# Altium footprint library Footprint.PcbLib: 97 footprints (part 6 of 7)
Each footprint in its own frame and in the unit in brackets; x right, y up, seen from the top. Pads: shape width x height; smd on the part's side, far side on the other; paste and mask are expansions set on the pad; w line width, h text height; cw(c..) or ccw(c..) is an arc to the next point about the centre after c.
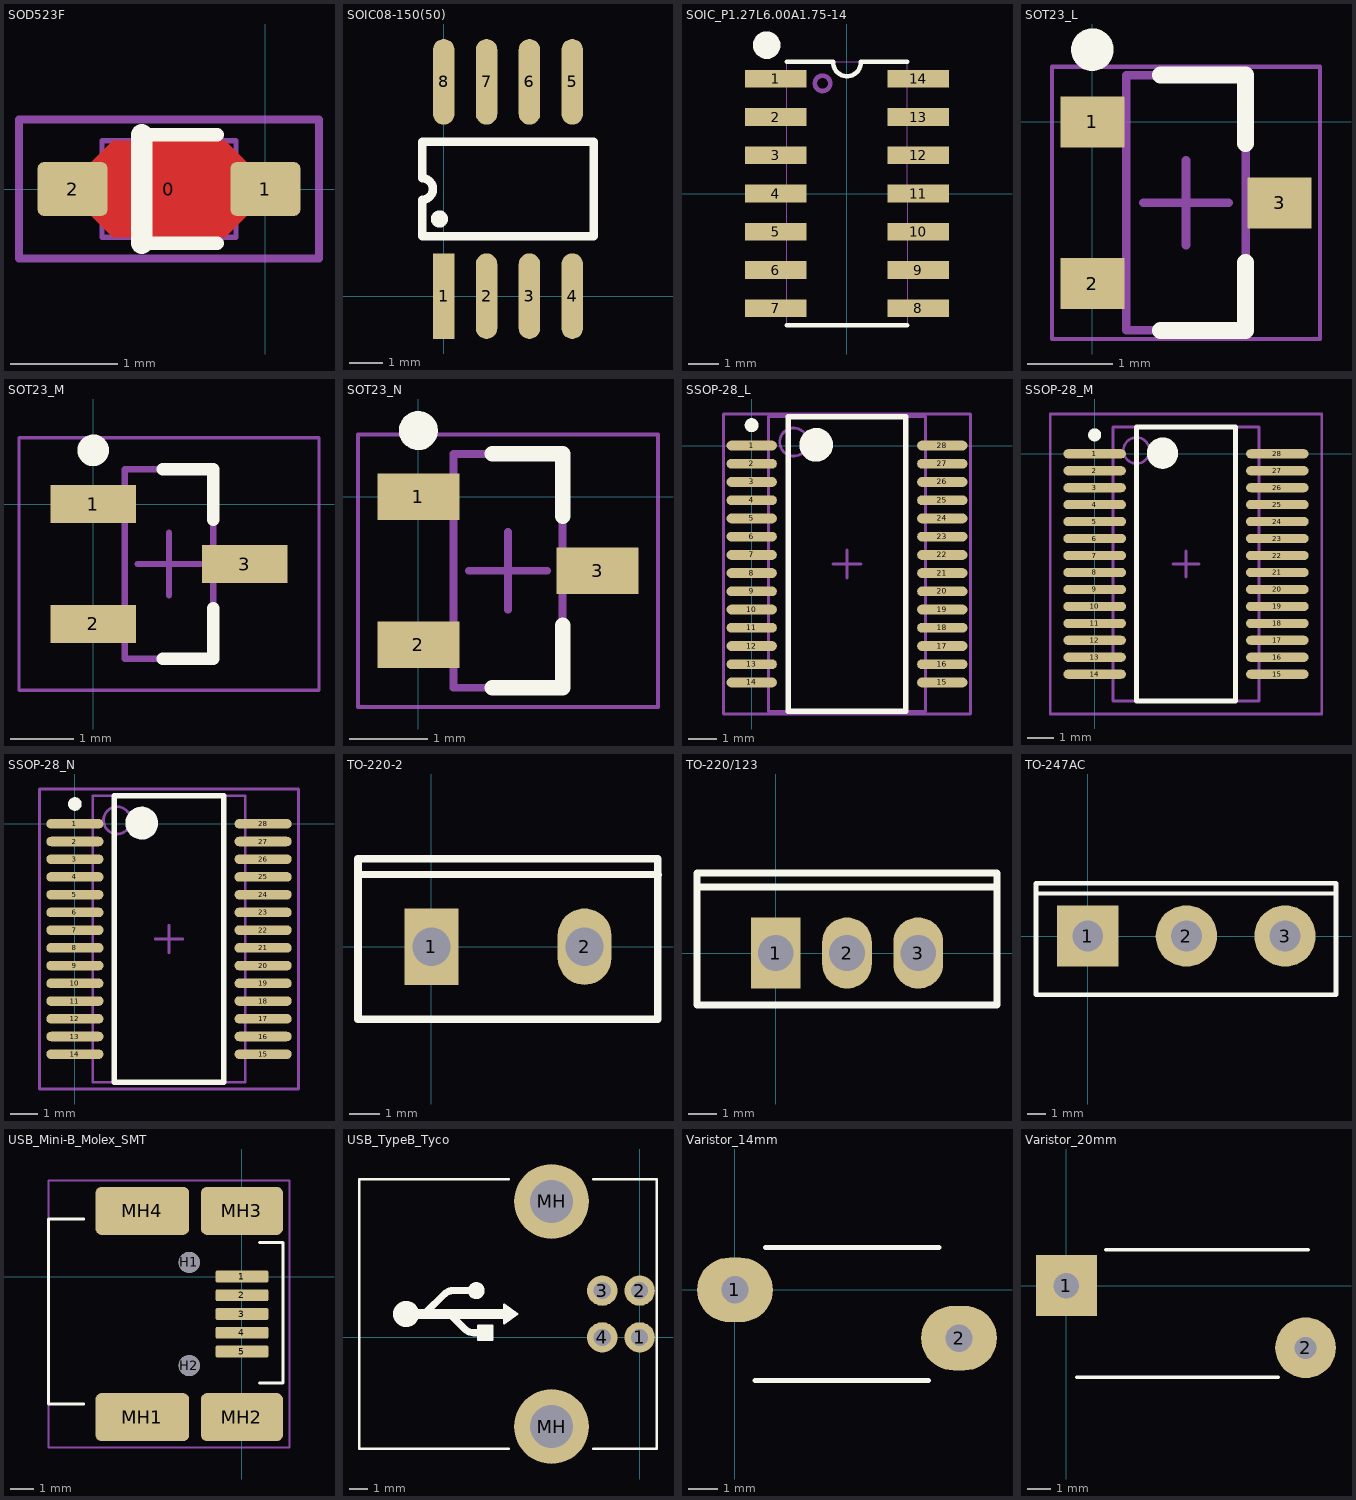
[diagram p5: the footprints below, top view; thin cyan lines are the x and y axes]

## SOD523F [mm] "SOD-523F; 2 Leads; Body 1.3 x 0.9 mm, (LxW)"
height 0.7
pads (3):
  round 0.508 on Mech15: 0(-0.9,0)
  rrect20% 0.65x0.5 smd: 1(0,0) 2(-1.8,0)
Top Layer:
  pour cut-out: -1.625,-0.25 -1.625,0.25 -1.425,0.45 -0.375,0.45 -0.175,0.25 -0.175,-0.25 -0.375,-0.45 -1.425,-0.45
Top Overlay:
  lines w0.127: -1.154,-0.508 -0.45,-0.508 ; -1.154,0.508 -0.45,0.508
  lines w0.2: -1.154,-0.508 -1.154,0.508
  text "." at -1.8,-0.625 h0.05
Mechanical 13:
  lines w0.05: -1.525,-0.175 -1.525,0.175 ; -1.525,-0.175 -1.525,-0.45 -0.275,-0.45 -0.275,-0.175 ; -1.525,-0.175 -1.75,-0.175 -1.75,0.175 -1.525,0.175 ; -1.525,0.175 -1.525,0.45 -0.275,0.45 -0.275,0.175 ; -0.275,-0.175 -0.275,0.175 ; -0.275,-0.175 -0.05,-0.175 -0.05,0.175 -0.275,0.175
  lines w0.127: -1.325,-0.275 -1.325,0.275
Mechanical 15:
  lines w0.076: -2.3,-0.65 0.5,-0.65 0.5,0.65 -2.3,0.65 -2.3,-0.65
3D body: height 0.7, standoff 0, extent -1.75,-0.45 -0.05,0.45

## SOIC08-150(50) [mm] "SOIC 8 Leads; Row Spacing 3.81 mm; Pitch 1.27 mm; 3D André L´Hérault"
height 1.778
pads (8):
  rect 0.635x2.54 smd: 1(0,0)
  oval 0.635x2.54 smd: 2(1.27,0) 3(2.54,0) 4(3.81,0) 5(3.81,6.35) 6(2.54,6.35) 7(1.27,6.35) 8(0,6.35)
Top Overlay:
  circle w0.254: c-0.127,2.286 r0.127
  lines w0.254: -0.635,1.778 4.445,1.778 4.445,4.572 -0.635,4.572 -0.635,3.492 cw(c-0.635,3.175) -0.635,2.857 -0.635,1.778
3D body: height 1.88, standoff 0, extent -0.508,0.147 4.442,6.203

## SOIC_P1.27L6.00A1.75-14 [mm]
height 1.75
pads (14):
  rect 2.04x0.592 smd: 1(-2.36,3.81) 2(-2.36,2.54) 3(-2.36,1.27) 4(-2.36,0) 5(-2.36,-1.27) 6(-2.36,-2.54) 7(-2.36,-3.81) 8(2.36,-3.81) 9(2.36,-2.54) 10(2.36,-1.27) 11(2.36,0) 12(2.36,1.27) 13(2.36,2.54) 14(2.36,3.81)
Top Overlay:
  circle w0.508: c-2.667,4.927 r0.203
  lines w0.152: -2,-4.375 2,-4.375 ; -2,4.369 -0.458,4.369 ccw(c0,4.352) 0.457,4.369 2,4.369
Mechanical 16:
  circle w0.152: c-0.813,3.659 r0.255
  lines w0.025: -3,-4.051 -3,-3.569 ; -3,-2.781 -3,-2.299 ; -3,-1.511 -3,-1.029 ; -3,-0.241 -3,0.241 ; -3,1.029 -3,1.511 ; -3,2.299 -3,2.781 ; -3,3.569 -3,4.051 ; -2.993,-4.051 -1.73,-4.051 -1.73,-3.569 -3,-3.569 ; -2.993,-2.781 -1.73,-2.781 -1.73,-2.299 -3,-2.299 ; -2.993,-1.511 -1.73,-1.511 -1.73,-1.029 -3,-1.029 ; -2.993,-0.241 -1.73,-0.241 -1.73,0.241 -3,0.241 ; -2.993,1.029 -1.73,1.029 -1.73,1.511 -3,1.511 ; -2.993,2.299 -1.73,2.299 -1.73,2.781 -3,2.781 ; -2.993,3.569 -1.73,3.569 -1.73,4.051 -3,4.051 ; -1.993,-3.569 -3,-3.569 ; -1.993,-2.299 -3,-2.299 ; -1.993,-1.029 -3,-1.029 ; -1.993,0.241 -3,0.241 ; -1.993,1.511 -3,1.511 ; -1.993,2.781 -3,2.781 ; -1.993,4.051 -3,4.051 ; 1.993,-3.569 3,-3.569 ; 1.993,-1.511 1.993,-1.029 3,-1.029 ; 1.993,1.511 3,1.511 ; 1.993,2.299 1.993,2.781 3,2.781 ; 1.993,3.569 1.993,4.051 3,4.051 ; 2.993,-4.051 1.73,-4.051 1.73,-3.569 3,-3.569 ; 2.993,-2.781 1.73,-2.781 1.73,-2.299 3,-2.299 3,-2.781 ; 2.993,-1.511 1.73,-1.511 1.73,-1.029 3,-1.029 ; 2.993,-0.241 1.73,-0.241 1.73,0.241 3,0.241 3,-0.241 ; 2.993,1.029 1.73,1.029 1.73,1.511 3,1.511 ; 2.993,2.299 1.73,2.299 1.73,2.781 3,2.781 ; 2.993,3.569 1.73,3.569 1.73,4.051 3,4.051 ; 3,-4.051 3,-3.569 ; 3,-1.511 3,-1.029 ; 3,1.029 3,1.511 ; 3,2.299 3,2.781 ; 3,3.569 3,4.051 ; -2,-4.375 2,-4.375 2,0 2,4.375 -2,4.375 -2,0 -2,-4.375
3D body: height 1.75, standoff 0, extent -2,-4.375 2,4.375

## SOT23_L [mm] "SOT23, 3-Leads, Body 2.9x1.3 mm, Pitch 0.95 mm, IPC High Density"
height 1.1
pads (3):
  rect 0.75x0.6 smd: 1(0,0) 2(0,-1.9) 3(2.2,-0.95)
Top Overlay:
  circle w0.25: c0,0.85 r0.125
  lines w0.2: 0.8,-2.45 1.8,-2.45 1.8,-1.65 ; 0.8,0.55 1.8,0.55 1.8,-0.25
Mechanical 13:
  lines w0.1: 0.4,-2.45 1.8,-2.45 1.8,0.55 0.4,0.55 0.4,-2.45
Mechanical 15:
  lines w0.05: -0.475,-2.55 2.675,-2.55 2.675,0.65 -0.475,0.65 -0.475,-2.55
  lines w0.1: 0.6,-0.95 1.6,-0.95 ; 1.1,-1.45 1.1,-0.45
3D body: height 1.1, standoff 0.1, extent 0.4,-2.45 1.8,0.55

## SOT23_M [mm] "SOT23, 3-Leads, Body 2.9x1.3 mm, Pitch 0.95 mm, IPC Low Density"
height 1.1
pads (3):
  rect 1.35x0.6 smd: 1(0,0) 2(0,-1.9) 3(2.4,-0.95)
Top Overlay:
  circle w0.25: c0,0.85 r0.125
  lines w0.2: 1.1,-2.45 1.9,-2.45 1.9,-1.65 ; 1.1,0.55 1.9,0.55 1.9,-0.25
Mechanical 13:
  lines w0.1: 0.5,-2.45 0.5,0.55 1.9,0.55 1.9,-2.45 0.5,-2.45
Mechanical 15:
  lines w0.05: -1.175,-2.95 -1.175,1.05 3.575,1.05 3.575,-2.95 -1.175,-2.95
  lines w0.1: 0.7,-0.95 1.7,-0.95 ; 1.2,-1.45 1.2,-0.45
3D body: height 1.1, standoff 0.1, extent 0.5,-2.45 1.9,0.55

## SOT23_N [mm] "SOT23, 3-Leads, Body 2.9x1.3 mm, Pitch 0.95 mm, IPC Medium Density"
height 1.1
pads (3):
  rect 1.05x0.6 smd: 1(0,0) 2(0,-1.9) 3(2.3,-0.95)
Top Overlay:
  circle w0.25: c0,0.85 r0.125
  lines w0.2: 0.95,-2.45 1.85,-2.45 1.85,-1.65 ; 0.95,0.55 1.85,0.55 1.85,-0.25
Mechanical 13:
  lines w0.1: 0.45,-2.45 1.85,-2.45 1.85,0.55 0.45,0.55 0.45,-2.45
Mechanical 15:
  lines w0.05: -0.775,-2.7 3.075,-2.7 3.075,0.8 -0.775,0.8 -0.775,-2.7
  lines w0.1: 0.65,-0.95 1.65,-0.95 ; 1.15,-1.45 1.15,-0.45
3D body: height 1.1, standoff 0.1, extent 0.45,-2.45 1.85,0.55

## SSOP-28_L [mm] "SOP, 28-Leads, Body 10.2x5.3mm, Pitch 0.65mm, IPC High Density"
height 2
pads (28):
  oval 1.8x0.35 smd: 1(0,0) 2(0,-0.65) 3(0,-1.3) 4(0,-1.95) 5(0,-2.6) 6(0,-3.25) 7(0,-3.9) 8(0,-4.55) 9(0,-5.2) 10(0,-5.85) 11(0,-6.5) 12(0,-7.15) 13(0,-7.8) 14(0,-8.45) 15(6.8,-8.45) 16(6.8,-7.8) 17(6.8,-7.15) 18(6.8,-6.5) 19(6.8,-5.85) 20(6.8,-5.2) 21(6.8,-4.55) 22(6.8,-3.9) 23(6.8,-3.25) 24(6.8,-2.6) 25(6.8,-1.95) 26(6.8,-1.3) 27(6.8,-0.65) 28(6.8,0)
Top Overlay:
  circle w0.25: c0,0.725 r0.125
  circle w0.6: c2.3,0.025 r0.3
  lines w0.2: 1.3,-9.475 1.3,1.025 5.5,1.025 5.5,-9.475 1.3,-9.475
Mechanical 13:
  circle w0.1: c1.5,0.125 r0.5
  lines w0.1: 0.6,-9.475 0.6,1.025 6.2,1.025 6.2,-9.475 0.6,-9.475
Mechanical 15:
  lines w0.1: 2.9,-4.225 3.9,-4.225 ; 3.4,-4.725 3.4,-3.725 ; -1,-9.575 -1,1.125 7.8,1.125 7.8,-9.575 -1,-9.575
3D body: height 2, standoff 0.05, extent 0.6,-9.475 6.2,1.025

## SSOP-28_M [mm] "SOP, 28-Leads, Body 10.2x5.3mm, Pitch 0.65mm, IPC Low Density"
height 2
pads (28):
  oval 2.4x0.35 smd: 1(0,0) 2(0,-0.65) 3(0,-1.3) 4(0,-1.95) 5(0,-2.6) 6(0,-3.25) 7(0,-3.9) 8(0,-4.55) 9(0,-5.2) 10(0,-5.85) 11(0,-6.5) 12(0,-7.15) 13(0,-7.8) 14(0,-8.45) 15(7,-8.45) 16(7,-7.8) 17(7,-7.15) 18(7,-6.5) 19(7,-5.85) 20(7,-5.2) 21(7,-4.55) 22(7,-3.9) 23(7,-3.25) 24(7,-2.6) 25(7,-1.95) 26(7,-1.3) 27(7,-0.65) 28(7,0)
Top Overlay:
  circle w0.6: c2.6,0.025 r0.3
  circle w0.25: c0,0.725 r0.125
  lines w0.2: 1.6,-9.475 5.4,-9.475 5.4,1.025 1.6,1.025 1.6,-9.475
Mechanical 13:
  circle w0.1: c1.6,0.125 r0.5
  lines w0.1: 0.7,-9.475 6.3,-9.475 6.3,1.025 0.7,1.025 0.7,-9.475
Mechanical 15:
  lines w0.1: 3,-4.225 4,-4.225 ; 3.5,-4.725 3.5,-3.725 ; -1.7,-9.975 8.7,-9.975 8.7,1.525 -1.7,1.525 -1.7,-9.975
3D body: height 2, standoff 0.05, extent 0.7,-9.475 6.3,1.025

## SSOP-28_N [mm] "SOP, 28-Leads, Body 10.2x5.3mm, Pitch 0.65mm, IPC Medium Density"
height 2
pads (28):
  oval 2.1x0.35 smd: 1(0,0) 2(0,-0.65) 3(0,-1.3) 4(0,-1.95) 5(0,-2.6) 6(0,-3.25) 7(0,-3.9) 8(0,-4.55) 9(0,-5.2) 10(0,-5.85) 11(0,-6.5) 12(0,-7.15) 13(0,-7.8) 14(0,-8.45) 15(6.9,-8.45) 16(6.9,-7.8) 17(6.9,-7.15) 18(6.9,-6.5) 19(6.9,-5.85) 20(6.9,-5.2) 21(6.9,-4.55) 22(6.9,-3.9) 23(6.9,-3.25) 24(6.9,-2.6) 25(6.9,-1.95) 26(6.9,-1.3) 27(6.9,-0.65) 28(6.9,0)
Top Overlay:
  circle w0.6: c2.45,0.025 r0.3
  circle w0.25: c0,0.725 r0.125
  lines w0.2: 1.45,-9.475 5.45,-9.475 5.45,1.025 1.45,1.025 1.45,-9.475
Mechanical 13:
  circle w0.1: c1.55,0.125 r0.5
  lines w0.1: 0.65,-9.475 6.25,-9.475 6.25,1.025 0.65,1.025 0.65,-9.475
Mechanical 15:
  lines w0.1: 2.95,-4.225 3.95,-4.225 ; 3.45,-4.725 3.45,-3.725 ; -1.3,-9.725 8.2,-9.725 8.2,1.275 -1.3,1.275 -1.3,-9.725
3D body: height 2, standoff 0.05, extent 0.65,-9.475 6.25,1.025

## TO-220-2 [mil] "TO, Thru-Hole, Vertical, Heatsink Mounted; 2 In-Line Leads; Pitch 5.08 mm"
pads (2):
  rect 70x100 hole 50: 1(0,0)
  oval 70x100 hole 50: 2(200,0)
Top Overlay:
  lines w10: -95.63,94.52 296,94 ; -96,-95 -96,115 295.63,115 295.63,-18.57 295.63,-95 -96,-95
3D body: height 720.49, standoff -396.83, extent -90,-88.58 290,88.58

## TO-220/123 [mil] "TO, Thru-Hole, Vertical, Heatsink Mounted; 3 In-Line Leads; Pitch 2.54 mm"
height 574.8
pads (3):
  rect 70x100 hole 50: 1(0,0)
  oval 70x100 hole 50: 2(100,0) 3(200,0)
Top Overlay:
  lines w10: -110.63,92.52 310.63,92.52 ; -110.63,-72.83 -110.63,112.2 310.63,112.2 310.63,-72.83 -110.63,-72.83
3D body: height 774.72, standoff -380, extent -120.73,-58.65 320.73,126

## TO-247AC [mm]
pads (3):
  rect 3.4x3.4 hole 1.7: 1(0,0)
  round 3.4 hole 1.7: 2(5.46,0) 3(10.92,0)
Top Overlay:
  lines w0.254: -2.845,2.358 13.716,2.336 ; -2.87,-3.251 2.011,-3.251 8.419,-3.251 13.741,-3.251 13.741,-0.913 13.741,2.921 -2.87,2.921 -2.87,-3.251
3D body: height 26.66, standoff -15.25, extent -2.68,-3.1 13.58,2.2

## USB_Mini-B_Molex_SMT [mm]
height 3.95
pads (11):
  rrect25% 2.25x0.5 smd: 1(0,0) 2(0,-0.8) 3(0,-1.6) 4(0,-2.4) 5(0,-3.2)
  round 0.9 hole 0.9 unplated: H1(-2.25,0.6) H2(-2.25,-3.8)
  rrect25% 4x2.05 smd: MH1(-4.25,-6) MH4(-4.25,2.8)
  rrect25% 3.5x2.05 smd: MH2(0,-6) MH3(0,2.8)
Top Overlay:
  lines w0.127: -6.75,-5.45 -8.25,-5.45 -8.25,2.45 -6.75,2.45 ; 0.75,-4.55 1.75,-4.55 1.75,1.45 0.75,1.45
Mechanical 15:
  lines w0.076: -8.25,-7.3 -8.25,4.1 2.025,4.1 2.025,-7.3 -8.25,-7.3
3D body: height 3.95, standoff 0, extent -8.25,-5.45 0.75,2.45

## USB_TypeB_Tyco [mm]
height 11.1
pads (6):
  round 1.626 hole 0.914: 1(0,0) 2(0,2.5) 3(-2,2.5) 4(-2,0)
  round 4 hole 2.3: MH(-4.71,-4.77) MH(-4.71,7.27)
Top Overlay:
  circle w0.508: c-8.74,2.5 r0.2
  circle w0.889: c-12.49,1.25 r0.254
  region: -7.89,-0.125 -8.64,-0.125 -8.64,0.625 -7.89,0.625
  region: -6.54,1.25 -7.24,0.75 -7.24,1.75
  lines w0.127: -6.99,-5.95 -14.99,-5.95 -14.99,8.45 -6.99,8.45 ; -2.49,-5.95 0.91,-5.95 0.91,8.45 -2.49,8.45 ; -8.64,-0.125 -7.89,-0.125 -7.89,0.625 -8.64,0.625 -8.64,-0.125 ; -7.24,0.75 -7.24,1.75 -6.54,1.25 -7.24,0.75
  lines w0.381: -11.443,1.312 -10.443,2.312 cw(c-9.99,1.86) -9.99,2.5 -8.74,2.5 ; -10.093,1.188 -9.343,0.438 ccw(c-8.89,0.89) -8.89,0.25 -8.64,0.25
  lines w0.508: -11.99,1.25 -7.24,1.25
3D body: height 11.5, standoff -3.93, extent -14.99,-5.944 0.71,8.444

## Varistor_14mm [mil]
pads (2):
  oval 100x85 hole 36 unplated: 1(0,0) 2(295.28,-63.53)
Top Overlay:
  lines w6: 26.41,-119.39 255.64,-119.39 ; 39.64,55.86 268.86,55.86
3D body: height 773.73, standoff -859.06, extent -178.58,-152.6 468.15,98.32

## Varistor_20mm [mil]
pads (2):
  rect 100x100 hole 42 unplated: 1(0,0)
  round 100 hole 36 unplated: 2(393.7,-102.36)
Top Overlay:
  lines w6: 17.08,-151.01 348.8,-151.01 ; 65.08,58.99 397.8,58.99
3D body: height 1003.94, standoff -78.26, extent -226.15,-165.35 620.31,62.99